# Altium schematic symbol library REF1925AIDDCT.SchLib: 2 symbols
Pins are listed as number, name and electrical type; pins without a type are passive.

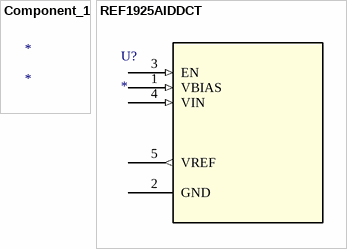
[diagram p0: symbols Component_1 to REF1925AIDDCT]

## Component_1
designator *

## REF1925AIDDCT
designator U?
No Description Available; Mfr_Name: Texas Instruments; RefDes: RefDes; Type: Type
footprint DDC5_TEX
pins: 1 VBIAS (in), 2 GND (power), 3 EN (in), 4 VIN (in), 5 VREF (out)